# Altium footprint library motorola-sensor-driver.PCBLIB: 16 footprints
Each footprint in its own frame and in the unit in brackets; x right, y up, seen from the top. Pads: shape width x height; smd on the part's side, far side on the other; paste and mask are expansions set on the pad; w line width, h text height; cw(c..) or ccw(c..) is an arc to the next point about the centre after c.
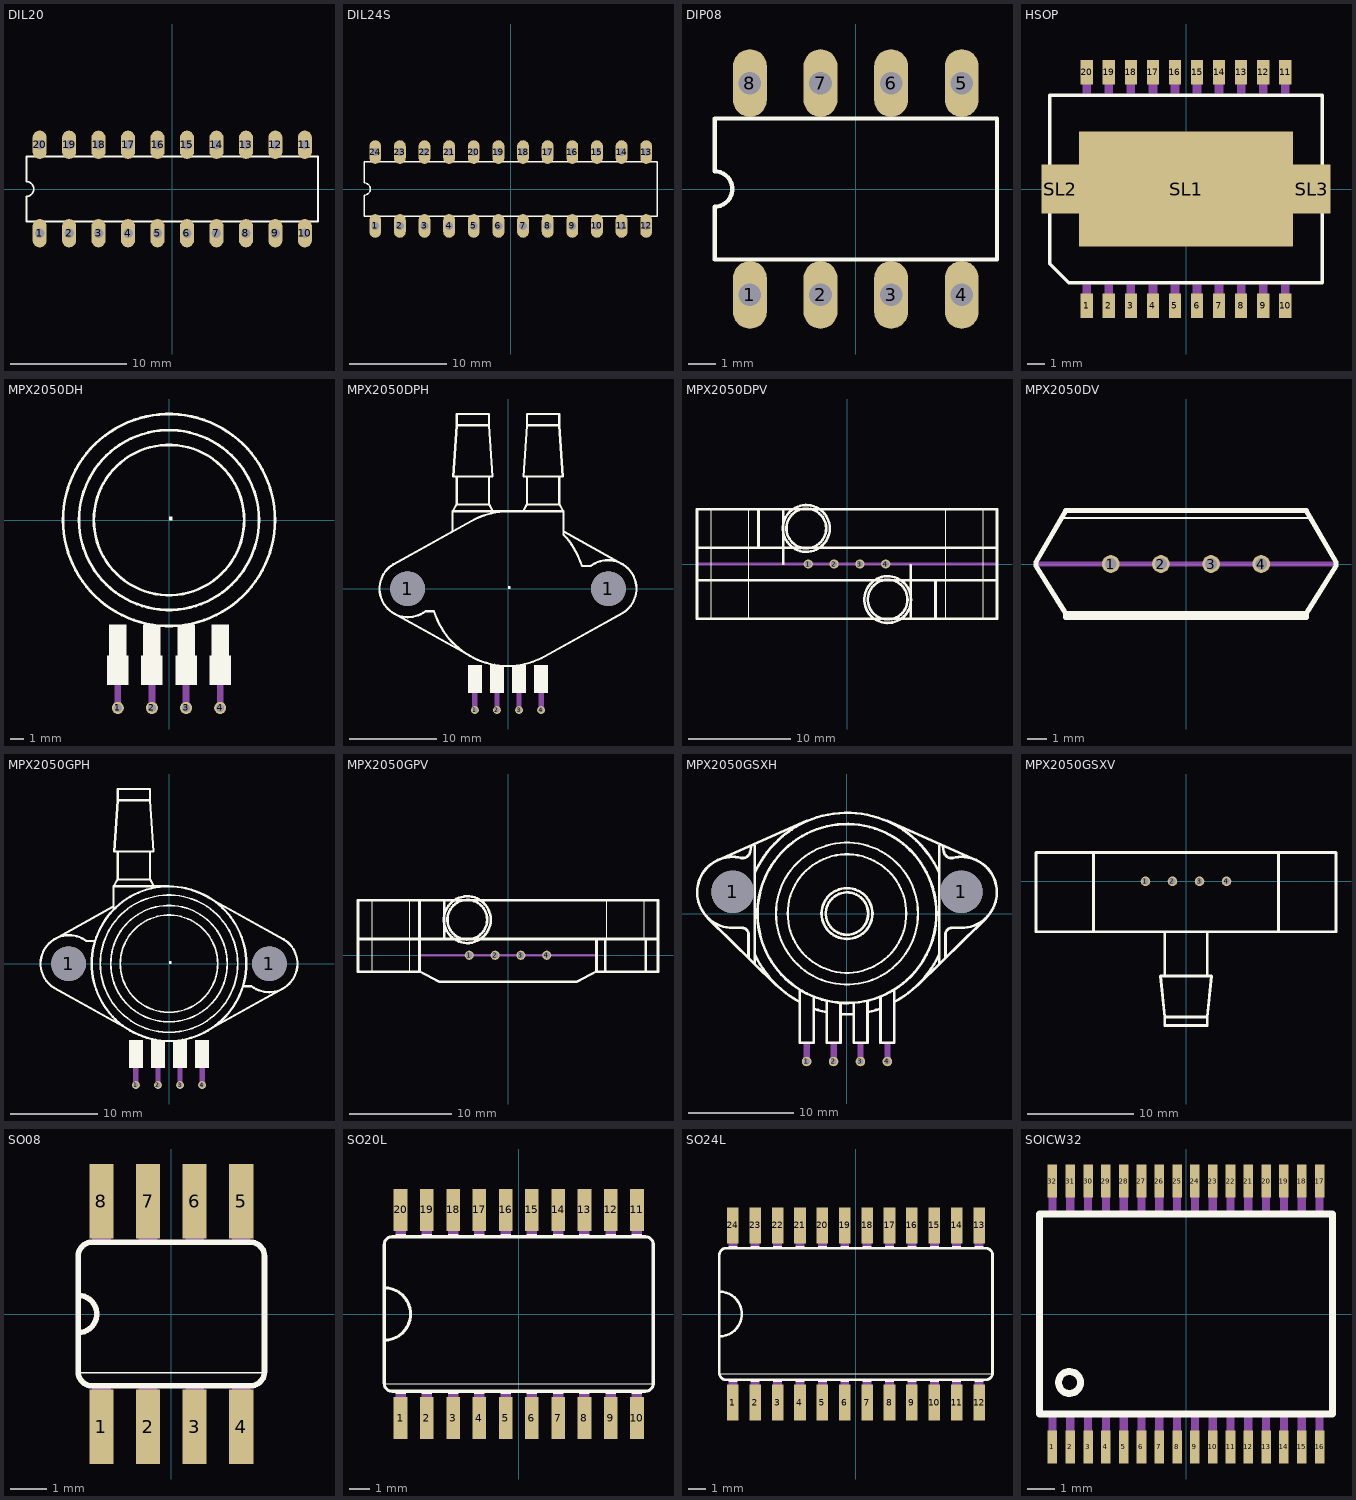
[diagram p0: the footprints below, top view; thin cyan lines are the x and y axes]

## DIL20 [mil]
pads (20):
  oval 48x96 hole 32: 1(-450,-150) 2(-350,-150) 3(-250,-150) 4(-150,-150) 5(-50,-150) 6(50,-150) 7(150,-150) 8(250,-150) 9(350,-150) 10(450,-150) 11(450,150) 12(350,150) 13(250,150) 14(150,150) 15(50,150) 16(-50,150) 17(-150,150) 18(-250,150) 19(-350,150) 20(-450,150)
Top Overlay:
  lines w6: -495,-110 -495,-25 ccw(c-495,0) -495,25 -495,110 495,110 495,-110 -495,-110

## DIL24S [mil]
pads (24):
  oval 48x96 hole 32: 1(-550,-150) 2(-450,-150) 3(-350,-150) 4(-250,-150) 5(-150,-150) 6(-50,-150) 7(50,-150) 8(150,-150) 9(250,-150) 10(350,-150) 11(450,-150) 12(550,-150) 13(550,150) 14(450,150) 15(350,150) 16(250,150) 17(150,150) 18(50,150) 19(-50,150) 20(-150,150) 21(-250,150) 22(-350,150) 23(-450,150) 24(-550,150)
Top Overlay:
  lines w6: -595,-110 -595,-25 ccw(c-595,0) -595,25 -595,110 595,110 595,-110 -595,-110

## DIP08 [mil]
pads (8):
  oval 48x96 hole 32: 1(-150,-150) 2(-50,-150) 3(50,-150) 4(150,-150) 5(150,150) 6(50,150) 7(-50,150) 8(-150,150)
Top Overlay:
  lines w6: -200,-100 -200,-25 ccw(c-200,0) -200,25 -200,100 200,100 200,-100 -200,-100

## HSOP [mil]
pads (23):
  rect 27.56x55.12 smd: 1(-225,-265) 2(-175,-265) 3(-125,-265) 4(-75,-265) 5(-25,-265) 6(25,-265) 7(75,-265) 8(125,-265) 9(175,-265) 10(225,-265) 11(225,265) 12(175,265) 13(125,265) 14(75,265) 15(25,265) 16(-25,265) 17(-75,265) 18(-125,265) 19(-175,265) 20(-225,265)
  rect 486.22x259.84 smd: SL1(0,0)
  rect 84.65x110.24 smd: SL2(-285,0) SL3(285,0)
Top Overlay:
  lines w8: -309.06,-169.29 -309.06,212.6 309.06,212.6 309.06,-212.6 -265.75,-212.6 -309.06,-169.29
Mechanical 16:
  rectangle: -234.84,-279.53 -215.16,-216.54
  rectangle: -184.84,-279.53 -165.16,-216.54
  rectangle: -134.84,-279.53 -115.16,-216.54
  rectangle: -84.84,-279.53 -65.16,-216.54
  rectangle: -34.84,-279.53 -15.16,-216.54
  rectangle: 15.16,-279.53 34.84,-216.54
  rectangle: 65.16,-279.53 84.84,-216.54
  rectangle: 115.16,-279.53 134.84,-216.54
  rectangle: 165.16,-279.53 184.84,-216.54
  rectangle: 215.16,-279.53 234.84,-216.54
  region: 234.84,279.53 215.16,279.53 215.16,216.54 234.84,216.54
  region: 184.84,279.53 165.16,279.53 165.16,216.54 184.84,216.54
  region: 134.84,279.53 115.16,279.53 115.16,216.54 134.84,216.54
  region: 84.84,279.53 65.16,279.53 65.16,216.54 84.84,216.54
  region: 34.84,279.53 15.16,279.53 15.16,216.54 34.84,216.54
  region: -15.16,279.53 -34.84,279.53 -34.84,216.54 -15.16,216.54
  region: -65.16,279.53 -84.84,279.53 -84.84,216.54 -65.16,216.54
  region: -115.16,279.53 -134.84,279.53 -134.84,216.54 -115.16,216.54
  region: -165.16,279.53 -184.84,279.53 -184.84,216.54 -165.16,216.54
  region: -215.16,279.53 -234.84,279.53 -234.84,216.54 -215.16,216.54

## MPX2050DH [mil]
pads (4):
  round 35.43 hole 23.62: 1(-150,-551.18) 2(-50,-551.18) 3(50,-551.18) 4(150,-551.18)
Top Overlay:
  circle w7.87: c0,0 r311.02
  circle w7.87: c0,0 r263.78
  circle w7.87: c0,0 r220.47
  rectangle: -181.5,-484.25 -118.5,-397.64
  rectangle: -81.5,-484.25 -18.5,-397.64
  rectangle: 18.5,-484.25 81.5,-397.64
  rectangle: 118.5,-484.25 181.5,-397.64
  rectangle: -175.59,-409.45 -124.41,-307.09
  rectangle: -75.59,-409.45 -24.41,-307.09
  rectangle: 24.41,-409.45 75.59,-307.09
  rectangle: 124.41,-409.45 175.59,-307.09
  region: 0,0 10,0 10,10 0,10
  region: 0,0 10,0 10,10 0,10
Mechanical 16:
  rectangle: -159.84,-551.18 -140.16,-324.8
  rectangle: -59.84,-551.18 -40.16,-324.8
  rectangle: 40.16,-551.18 59.84,-324.8
  rectangle: 140.16,-551.18 159.84,-324.8

## MPX2050DPH [mm]
pads (6):
  round 4 hole 4: 1(-11.555,0) 1(11.555,0)
  round 0.9 hole 0.6: 1(-3.81,-13.97) 2(-1.27,-13.97) 3(1.27,-13.97) 4(3.81,-13.97)
Top Overlay:
  rectangle: 3.01,-12 4.61,-8.8
  rectangle: 0.47,-12 2.07,-8.8
  rectangle: -2.07,-12 -0.47,-8.8
  rectangle: -4.61,-12 -3.01,-8.8
  region: 0,0 0.254,0 0.254,0.254 0,0.254
  region: 0,0 0.254,0 0.254,0.254 0,0.254
  lines w0.254: -13.2,-2.8 -4.2,-7.8 ; -6.4,6.6 -6.4,8.9 -0.1,8.9 ; -6.3,9 -5.9,9.7 ; -1.8,9 -2.2,9.7 ; 0,8.9 ccw(c0.087,0) -4.2,7.8 -13.2,2.8 ccw(c-11.5,-0.003) -9.5,-2.6 -8.5,-2.6 ccw(c0.012,0) 0,-8.9 ccw(c-0.087,0) 4.2,-7.8 13.2,-2.8 ccw(c11.5,0.003) 9.5,2.6 8.5,2.6 ccw(c0,0.054) 6.4,6.2 6.4,6.6 ; 0.1,8.9 6.4,8.9 6.4,6.6 ; 1.8,9 2.2,9.7 ; 6.3,9 5.9,9.7 ; 13.2,2.8 6.4,6.6 ; -5.9,9.7 -2.2,9.7 ; -5.9,9.7 -5.9,12.9 ; -5.9,12.9 -2.2,12.9 ; -5.9,12.9 -6.3,12.9 -5.9,18.8 ; -5.9,18.8 -2.2,18.8 ; -5.9,18.8 -5.9,20.1 -2.2,20.1 -2.2,18.8 ; -2.2,9.7 -2.2,12.9 ; -2.2,12.9 -1.8,12.9 -2.2,18.8 ; 2.2,9.7 5.9,9.7 ; 2.2,9.7 2.2,12.9 ; 2.2,12.9 1.8,12.9 2.2,18.8 ; 2.2,12.9 5.9,12.9 ; 2.2,18.8 5.9,18.8 ; 2.2,18.8 2.2,20.1 5.9,20.1 5.9,18.8 ; 5.9,9.7 5.9,12.9 ; 5.9,12.9 6.3,12.9 5.9,18.8
Mechanical 16:
  lines w0.61: -3.81,-13.97 -3.81,-11.43 ; -1.27,-13.97 -1.27,-11.43 ; 1.27,-13.97 1.27,-11.43 ; 3.81,-13.97 3.81,-11.43

## MPX2050DPV [mil]
pads (4):
  round 35.43 hole 23.62: 1(-150,0) 2(-50,0) 3(50,0) 4(150,0)
Top Overlay:
  circle w10: c-157.48,137.8 r76.77
  circle w10: c-157.48,137.8 r90.55
  circle w10: c157.48,-137.8 r76.77
  circle w10: c157.48,-137.8 r90.55
  lines w4: -527.56,-210.63 -527.56,208.66 ; -381.89,-210.63 -381.89,208.66 ; 381.89,-208.66 381.89,210.63 ; 527.56,-208.66 527.56,210.63
  lines w10: -576.77,-62.99 246.06,-62.99 ; -576.77,62.99 -342.52,62.99 ; -246.06,1.97 -246.06,62.99 ; -246.06,66.93 -246.06,208.66 ; 246.06,-208.66 246.06,-66.93 ; 246.06,-5.91 246.06,-62.99 ; 342.52,-208.66 342.52,-62.99 ; 576.77,-62.99 342.52,-62.99 ; 576.77,62.99 -246.06,62.99 ; -342.52,62.99 -246.06,62.99 ; -342.52,62.99 -342.52,212.6 ; -342.52,212.6 -580.71,212.6 -580.71,-212.6 580.71,-212.6 580.71,212.6 -342.52,212.6 ; 246.06,-62.99 342.52,-62.99
Mechanical 16:
  lines w10: -576.77,0 574.8,0

## MPX2050DV [mil]
pads (4):
  round 35.43 hole 23.62: 1(-150,0) 2(-50,0) 3(50,0) 4(150,0)
Top Overlay:
  lines w4: -245.16,91.3 245.16,91.3
  lines w10: -240.16,-98.43 -240.16,-106.3 240.16,-106.3 240.16,-98.43 ; -240.16,-98.43 -299.21,-3.94 -299.21,3.94 -240.16,106.3 240.16,106.3 299.21,3.94 299.21,-3.94 240.16,-98.43 ; -240.16,-98.43 240.16,-98.43
Mechanical 16:
  lines w10: -295.28,0 295.28,0

## MPX2050GPH [mm]
pads (6):
  round 4 hole 4: 1(-11.555,0) 1(11.555,0)
  round 0.9 hole 0.6: 1(-3.81,-13.97) 2(-1.27,-13.97) 3(1.27,-13.97) 4(3.81,-13.97)
Top Overlay:
  circle w0.254: c0,0 r8.9
  circle w0.2: c0,0 r7.9
  circle w0.2: c0,0 r6.7
  circle w0.2: c0,0 r5.6
  rectangle: 3.01,-12 4.61,-8.8
  rectangle: 0.47,-12 2.07,-8.8
  rectangle: -2.07,-12 -0.47,-8.8
  rectangle: -4.61,-12 -3.01,-8.8
  region: 0,0 0.254,0 0.254,0.254 0,0.254
  region: 0,0 0.254,0 0.254,0.254 0,0.254
  lines w0.254: -13.2,2.8 -6.4,6.6 ; -6.3,9 -5.9,9.7 ; -1.8,9 -2.2,9.7 ; -0.1,8.9 -6.4,8.9 -6.4,6.6 ; 0,8.9 cw(c-0.087,0) 4.2,7.8 13.2,2.8 cw(c11.5,-0.003) 9.5,-2.6 8.5,-2.6 cw(c-0.012,0) 0,-8.9 cw(c0.087,0) -4.2,-7.8 -13.2,-2.8 cw(c-11.5,0.003) -9.5,2.6 -8.5,2.6 cw(c0,0.054) -6.4,6.2 -6.4,6.6 ; 4.2,-7.8 13.2,-2.8 ; -5.9,9.7 -2.2,9.7 ; -5.9,9.7 -5.9,12.9 ; -5.9,12.9 -2.2,12.9 ; -5.9,12.9 -6.3,12.9 -5.9,18.8 ; -5.9,18.8 -2.2,18.8 ; -5.9,18.8 -5.9,20.1 -2.2,20.1 -2.2,18.8 ; -2.2,9.7 -2.2,12.9 ; -2.2,12.9 -1.8,12.9 -2.2,18.8
Mechanical 16:
  lines w0.61: -3.81,-13.97 -3.81,-11.43 ; -1.27,-13.97 -1.27,-11.43 ; 1.27,-13.97 1.27,-11.43 ; 3.81,-13.97 3.81,-11.43

## MPX2050GPV [mil]
pads (4):
  round 35.43 hole 23.62: 1(-150,0) 2(-50,0) 3(50,0) 4(150,0)
Top Overlay:
  circle w10: c-157.48,137.8 r76.77
  circle w10: c-157.48,137.8 r90.55
  lines w4: -527.56,-61.02 -527.56,208.66 ; -381.89,-62.99 -381.89,208.66 ; 381.89,66.93 381.89,210.63 ; 527.56,64.96 527.56,210.63
  lines w10: -576.77,62.99 -342.52,62.99 ; -246.06,66.93 -246.06,208.66 ; 342.52,61.02 342.52,0 342.52,-62.99 ; 533.46,-59.06 533.46,61.02 ; 578.74,62.99 375.98,62.99 ; -342.52,-62.99 -381.89,-62.99 -580.71,-62.99 -580.71,212.6 -342.52,212.6 ; -342.52,-62.99 -342.52,0 -342.52,62.99 ; -342.52,-62.99 -265.75,-102.36 265.75,-102.36 342.52,-62.99 ; -342.52,62.99 375.98,62.99 ; -342.52,62.99 -342.52,212.6 ; -342.52,212.6 580.71,212.6 580.71,-62.99 375.98,-62.99 ; 342.52,-62.99 375.98,-62.99 ; 375.98,-62.99 375.98,62.99
Mechanical 16:
  lines w10: -342.52,0 342.52,0

## MPX2050GSXH [mm]
pads (6):
  round 4 hole 4: 1(-10.8,2.05) 1(10.8,2.05)
  round 0.9 hole 0.6: 1(-3.81,-13.97) 2(-1.27,-13.97) 3(1.27,-13.97) 4(3.81,-13.97)
Top Overlay:
  circle w0.2: c0,0 r6.7
  circle w0.2: c0,0 r5.6
  circle w0.254: c0,0 r8.45
  circle w0.254: c0,0 r2.4
  circle w0.254: c0,0 r2
  lines w0.254: -13.15,-0.4 -6.7,-6.75 ; -12.2,5.05 -3.8,8.75 ; -10.8,-1.35 -9.95,-1.35 ; -10.75,-1.35 cw(c-10.8,2) -10.8,5.35 cw(c-10.813,2) -10,5.25 ccw(c-9.866,5.975) -9.15,5.8 -9.05,6.35 ; -9.9,-1.35 cw(c-9.9,-1.95) -9.3,-1.95 -9.3,-4.1 ; -8.7,-4.75 -8.7,6.4 ; -8.7,-3.85 ccw(c-0.025,0.086) -4.45,-8.35 ; -8.65,3.95 cw(c0.003,0) 8.7,3.85 ; -4.45,-7.25 -4.45,-12.2 -3.15,-12.2 -3.15,-7.9 ; -3.1,-9 ccw(c-0.138,0.001) -1.95,-9.3 ; -1.91,-8.3 -1.91,-12.2 -0.61,-12.2 -0.61,-8.55 ; -0.6,-9.5 ccw(c0,-0.001) 0.6,-9.5 ; 0.63,-8.5 0.63,-12.2 1.93,-12.2 1.93,-8.3 ; 1.95,-9.3 ccw(c0.138,0.001) 3.1,-9 ; 3.17,-7.9 3.17,-12.2 4.47,-12.2 4.47,-7.25 ; 3.8,8.75 12.2,5.05 ; 4.45,-8.35 ccw(c0.025,0.086) 8.7,-3.85 ; 6.7,-6.75 13.15,-0.4 ; 8.7,-4.75 8.7,6.4 ; 9.05,6.35 9.15,5.8 ccw(c9.866,5.975) 10,5.25 cw(c10.813,2) 10.8,5.35 cw(c10.8,2) 10.75,-1.35 ; 9.3,-4.1 9.3,-1.95 cw(c9.9,-1.95) 9.9,-1.35 ; 9.95,-1.35 10.8,-1.35
Mechanical 16:
  rectangle: -4.1,-13.95 -3.5,-12.25
  rectangle: -1.56,-13.95 -0.96,-12.25
  rectangle: 0.98,-13.95 1.58,-12.25
  rectangle: 3.52,-13.95 4.12,-12.25

## MPX2050GSXV [mil]
pads (4):
  round 35.43 hole 23.62: 1(-150,0) 2(-50,0) 3(50,0) 4(150,0)
Top Overlay:
  lines w10: -342.52,104.33 -342.52,-187.01 ; -78.74,-346.46 -78.74,-188.98 ; 78.74,-348.43 78.74,-188.98 ; 342.52,104.33 342.52,-187.01 ; -342.52,-187.01 342.52,-187.01 ; -342.52,-187.01 -555.12,-187.01 -555.12,106.3 555.12,106.3 555.12,-187.01 342.52,-187.01 ; -78.74,-501.97 -78.74,-533.46 78.74,-533.46 78.74,-501.97 ; -78.74,-501.97 78.74,-501.97 ; -78.74,-501.97 -94.49,-350.39 94.49,-350.39 78.74,-501.97

## SO08 [mil]
pads (8):
  rect 26x80 smd: 1(-75,-121) 2(-25,-121) 3(25,-121) 4(75,-121) 5(75,121) 6(25,121) 7(-25,121) 8(-75,121)
Top Overlay:
  lines w2: -100,-63 100,-63
  lines w6: -100,-20 ccw(c-100,0) -100,20 ; -100,-62 ccw(c-85,-62) -85,-77 85,-77 ccw(c85,-62) 100,-62 100,62 ccw(c85,62) 85,77 -85,77 ccw(c-85,62) -100,62 -100,-62
Mechanical 16:
  rectangle: 65,77 85,122
  rectangle: -85,-122 -65,-77
  rectangle: -35,-122 -15,-77
  rectangle: 15,-121 35,-76
  rectangle: 65,-122 85,-77
  rectangle: 15,77 35,122
  rectangle: -35,77 -15,122
  rectangle: -85,77 -65,122

## SO20L [mil]
pads (20):
  rect 26x80 smd: 1(-225,-198) 2(-175,-198) 3(-125,-198) 4(-75,-198) 5(-25,-198) 6(25,-198) 7(75,-198) 8(125,-198) 9(175,-198) 10(225,-198) 11(225,198) 12(175,198) 13(125,198) 14(75,198) 15(25,198) 16(-25,198) 17(-75,198) 18(-125,198) 19(-175,198) 20(-225,198)
Top Overlay:
  rectangle: -235,-152 -215,-147
  rectangle: -185,-152 -165,-147
  rectangle: -135,-152 -115,-147
  rectangle: -85,-152 -65,-147
  rectangle: -35,-152 -15,-147
  rectangle: 15,-152 35,-147
  rectangle: 65,-152 85,-147
  rectangle: 115,-152 135,-147
  rectangle: -235,147 -215,152
  rectangle: -185,147 -165,152
  rectangle: -135,147 -115,152
  rectangle: -85,147 -65,152
  rectangle: -35,147 -15,152
  rectangle: 15,147 35,152
  rectangle: 65,147 85,152
  rectangle: 115,147 135,152
  rectangle: 165,147 185,152
  rectangle: 215,147 235,152
  rectangle: 165,-152 185,-147
  rectangle: 215,-152 235,-147
  lines w2: -255,-133 255,-133
  lines w6: -256,-50 ccw(c-256,0) -256,50 ; -256,-132 ccw(c-241,-132) -241,-147 241,-147 ccw(c241,-132) 256,-132 256,132 ccw(c241,132) 241,147 -241,147 ccw(c-241,132) -256,132 -256,-132
Mechanical 16:
  rectangle: -235,-210 -215,-152
  rectangle: -185,-210 -165,-152
  rectangle: -135,-210 -115,-152
  rectangle: -85,-210 -65,-152
  rectangle: -35,-210 -15,-152
  rectangle: 15,-210 35,-152
  rectangle: 65,-210 85,-152
  rectangle: 115,-210 135,-152
  rectangle: -235,152 -215,210
  rectangle: -185,152 -165,210
  rectangle: -135,152 -115,210
  rectangle: -85,152 -65,210
  rectangle: -35,152 -15,210
  rectangle: 15,152 35,210
  rectangle: 65,152 85,210
  rectangle: 115,152 135,210
  rectangle: 165,152 185,210
  rectangle: 215,152 235,210
  rectangle: 165,-210 185,-152
  rectangle: 215,-210 235,-152

## SO24L [mil]
pads (24):
  rect 26x80 smd: 1(-275,-198) 2(-225,-198) 3(-175,-198) 4(-125,-198) 5(-75,-198) 6(-25,-198) 7(25,-198) 8(75,-198) 9(125,-198) 10(175,-198) 11(225,-198) 12(275,-198) 13(275,198) 14(225,198) 15(175,198) 16(125,198) 17(75,198) 18(25,198) 19(-25,198) 20(-75,198) 21(-125,198) 22(-175,198) 23(-225,198) 24(-275,198)
Top Overlay:
  rectangle: -285,-152 -265,-147
  rectangle: -235,-152 -215,-147
  rectangle: -185,-152 -165,-147
  rectangle: -135,-152 -115,-147
  rectangle: -85,-152 -65,-147
  rectangle: -35,-152 -15,-147
  rectangle: 15,-152 35,-147
  rectangle: 65,-152 85,-147
  rectangle: -285,147 -265,152
  rectangle: -235,147 -215,152
  rectangle: -185,147 -165,152
  rectangle: -135,147 -115,152
  rectangle: -85,147 -65,152
  rectangle: -35,147 -15,152
  rectangle: 15,147 35,152
  rectangle: 65,147 85,152
  rectangle: 115,147 135,152
  rectangle: 165,147 185,152
  rectangle: 215,147 235,152
  rectangle: 265,147 285,152
  rectangle: 115,-152 135,-147
  rectangle: 165,-152 185,-147
  rectangle: 215,-152 235,-147
  rectangle: 265,-152 285,-147
  lines w2: -305,-133 305,-133
  lines w6: -305,-50 ccw(c-305,0) -305,50 ; -305,-132 ccw(c-290,-132) -290,-147 290,-147 ccw(c290,-132) 305,-132 305,132 ccw(c290,132) 290,147 -290,147 ccw(c-290,132) -305,132 -305,-132
Mechanical 16:
  rectangle: -285,-210 -265,-152
  rectangle: -235,-210 -215,-152
  rectangle: -185,-210 -165,-152
  rectangle: -135,-210 -115,-152
  rectangle: -85,-210 -65,-152
  rectangle: -35,-210 -15,-152
  rectangle: 15,-210 35,-152
  rectangle: 65,-210 85,-152
  rectangle: -285,152 -265,210
  rectangle: -235,152 -215,210
  rectangle: -185,152 -165,210
  rectangle: -135,152 -115,210
  rectangle: -85,152 -65,210
  rectangle: -35,152 -15,210
  rectangle: 15,152 35,210
  rectangle: 65,152 85,210
  rectangle: 115,152 135,210
  rectangle: 165,152 185,210
  rectangle: 215,152 235,210
  rectangle: 265,152 285,210
  rectangle: 115,-210 135,-152
  rectangle: 165,-210 185,-152
  rectangle: 215,-210 235,-152
  rectangle: 265,-210 285,-152

## SOICW32 [mm]
pads (32):
  rect 0.35x1.2 smd: 1(-4.875,-4.85) 2(-4.225,-4.85) 3(-3.575,-4.85) 4(-2.925,-4.85) 5(-2.275,-4.85) 6(-1.625,-4.85) 7(-0.975,-4.85) 8(-0.325,-4.85) 9(0.325,-4.85) 10(0.975,-4.85) 11(1.625,-4.85) 12(2.275,-4.85) 13(2.925,-4.85) 14(3.575,-4.85) 15(4.225,-4.85) 16(4.875,-4.85) 17(4.875,4.85) 18(4.225,4.85) 19(3.575,4.85) 20(2.925,4.85) 21(2.275,4.85) 22(1.625,4.85) 23(0.975,4.85) 24(0.325,4.85) 25(-0.325,4.85) 26(-0.975,4.85) 27(-1.625,4.85) 28(-2.275,4.85) 29(-2.925,4.85) 30(-3.575,4.85) 31(-4.225,4.85) 32(-4.875,4.85)
Top Overlay:
  circle w0.254: c-4.25,-2.5 r0.4
  lines w0.254: -5.35,-3.65 5.35,-3.65 5.35,3.65 -5.35,3.65 -5.35,-3.65
Mechanical 16:
  rectangle: -5.025,-5.15 -4.725,-3.75
  rectangle: -4.375,-5.15 -4.075,-3.75
  rectangle: -3.725,-5.15 -3.425,-3.75
  rectangle: -3.075,-5.15 -2.775,-3.75
  rectangle: -2.425,-5.15 -2.125,-3.75
  rectangle: -1.775,-5.15 -1.475,-3.75
  rectangle: -1.125,-5.15 -0.825,-3.75
  rectangle: -0.475,-5.15 -0.175,-3.75
  rectangle: 0.175,-5.15 0.475,-3.75
  rectangle: 0.825,-5.15 1.125,-3.75
  rectangle: 1.475,-5.15 1.775,-3.75
  rectangle: 2.125,-5.15 2.425,-3.75
  rectangle: 2.775,-5.15 3.075,-3.75
  rectangle: 3.425,-5.15 3.725,-3.75
  rectangle: 4.075,-5.15 4.375,-3.75
  rectangle: 4.725,-5.15 5.025,-3.75
  rectangle: 4.725,3.75 5.025,5.15
  rectangle: 4.075,3.75 4.375,5.15
  rectangle: 3.425,3.75 3.725,5.15
  rectangle: 2.775,3.75 3.075,5.15
  rectangle: 2.125,3.75 2.425,5.15
  rectangle: 1.475,3.75 1.775,5.15
  rectangle: 0.825,3.75 1.125,5.15
  rectangle: 0.175,3.75 0.475,5.15
  rectangle: -0.475,3.75 -0.175,5.15
  rectangle: -1.125,3.75 -0.825,5.15
  rectangle: -1.775,3.75 -1.475,5.15
  rectangle: -2.425,3.75 -2.125,5.15
  rectangle: -3.075,3.75 -2.775,5.15
  rectangle: -3.725,3.75 -3.425,5.15
  rectangle: -4.375,3.75 -4.075,5.15
  rectangle: -5.025,3.75 -4.725,5.15